# EAGLE library part MVD-258 (library TerminalBlock)
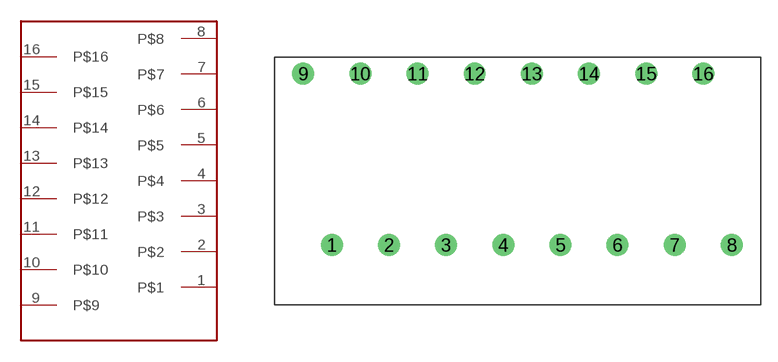
[diagram p0: symbol with the pads of 2X8; footprint 2X8]

Designator prefix -

## MVD-258  [2X8]
1  P$1
2  P$2
3  P$3
4  P$4
5  P$5
6  P$6
7  P$7
8  P$8
9  P$9
10  P$10
11  P$11
12  P$12
13  P$13
14  P$14
15  P$15
16  P$16

## Footprint 2X8 (pad centres in mm)
drill 1.3 round: 1 2.54,0; 2 7.62,0; 3 12.7,0; 4 17.78,0; 5 22.86,0; 6 27.94,0; 7 33.02,0; 8 38.1,0; 9 0,15.24; 10 5.08,15.24; 11 10.16,15.24; 12 15.24,15.24; 13 20.32,15.24; 14 25.4,15.24; 15 30.48,15.24; 16 35.56,15.24